# EAGLE library part 7SEG* (library mita-akiba)
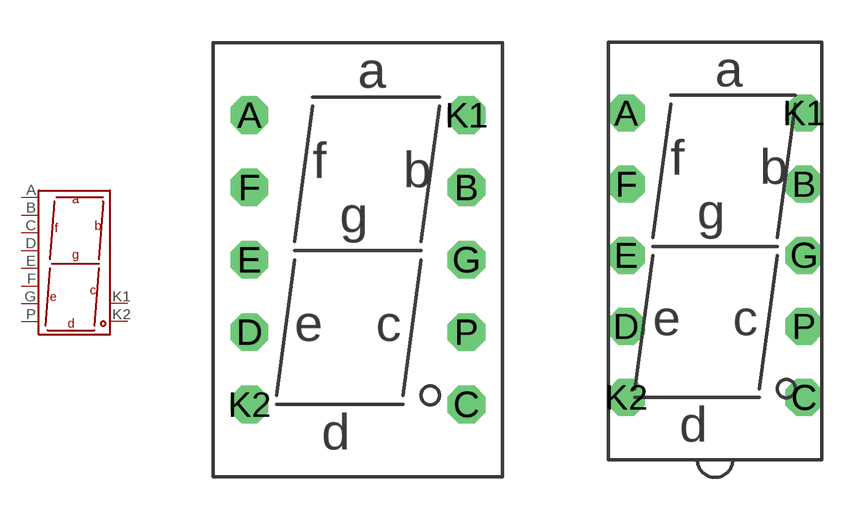
[diagram p19: symbol with the pads of 7SEG-300MIL; footprints 7SEG-300MIL, 7SEG-200MIL]

Designator prefix -

## 7SEG300MIL  [7SEG-300MIL]
A  A  in
B  B  in
C  C  in
D  D  in
E  E  in
F  F  in
G  G  in
K1  K1
K2  K2
P  P  in

## 7SEG200MIL  [7SEG-200MIL]
Pads as for 7SEG-300MIL

## Footprint 7SEG-300MIL (pad centres in mm)
7-Segment LED
drill 0.813 octagon: A -3.81,5.08; B 3.81,2.54; C 3.81,-5.08; D -3.81,-2.54; E -3.81,0; F -3.81,2.54; G 3.81,0; K1 3.81,5.08; K2 -3.81,-5.08; P 3.81,-2.54

## Footprint 7SEG-200MIL (pad centres in mm)
7-Segment LED
drill 0.813 octagon: A -3.175,5.08; B 3.175,2.54; C 3.175,-5.08; D -3.175,-2.54; E -3.175,0; F -3.175,2.54; G 3.175,0; K1 3.175,5.08; K2 -3.175,-5.08; P 3.175,-2.54